# Altium footprint library Connector_Phoenix_SPT.PcbLib: 69 footprints (part 4 of 5)
Each footprint in its own frame and in the unit in brackets; x right, y up, seen from the top. Pads: shape width x height; smd on the part's side, far side on the other; paste and mask are expansions set on the pad; w line width, h text height; cw(c..) or ccw(c..) is an arc to the next point about the centre after c.
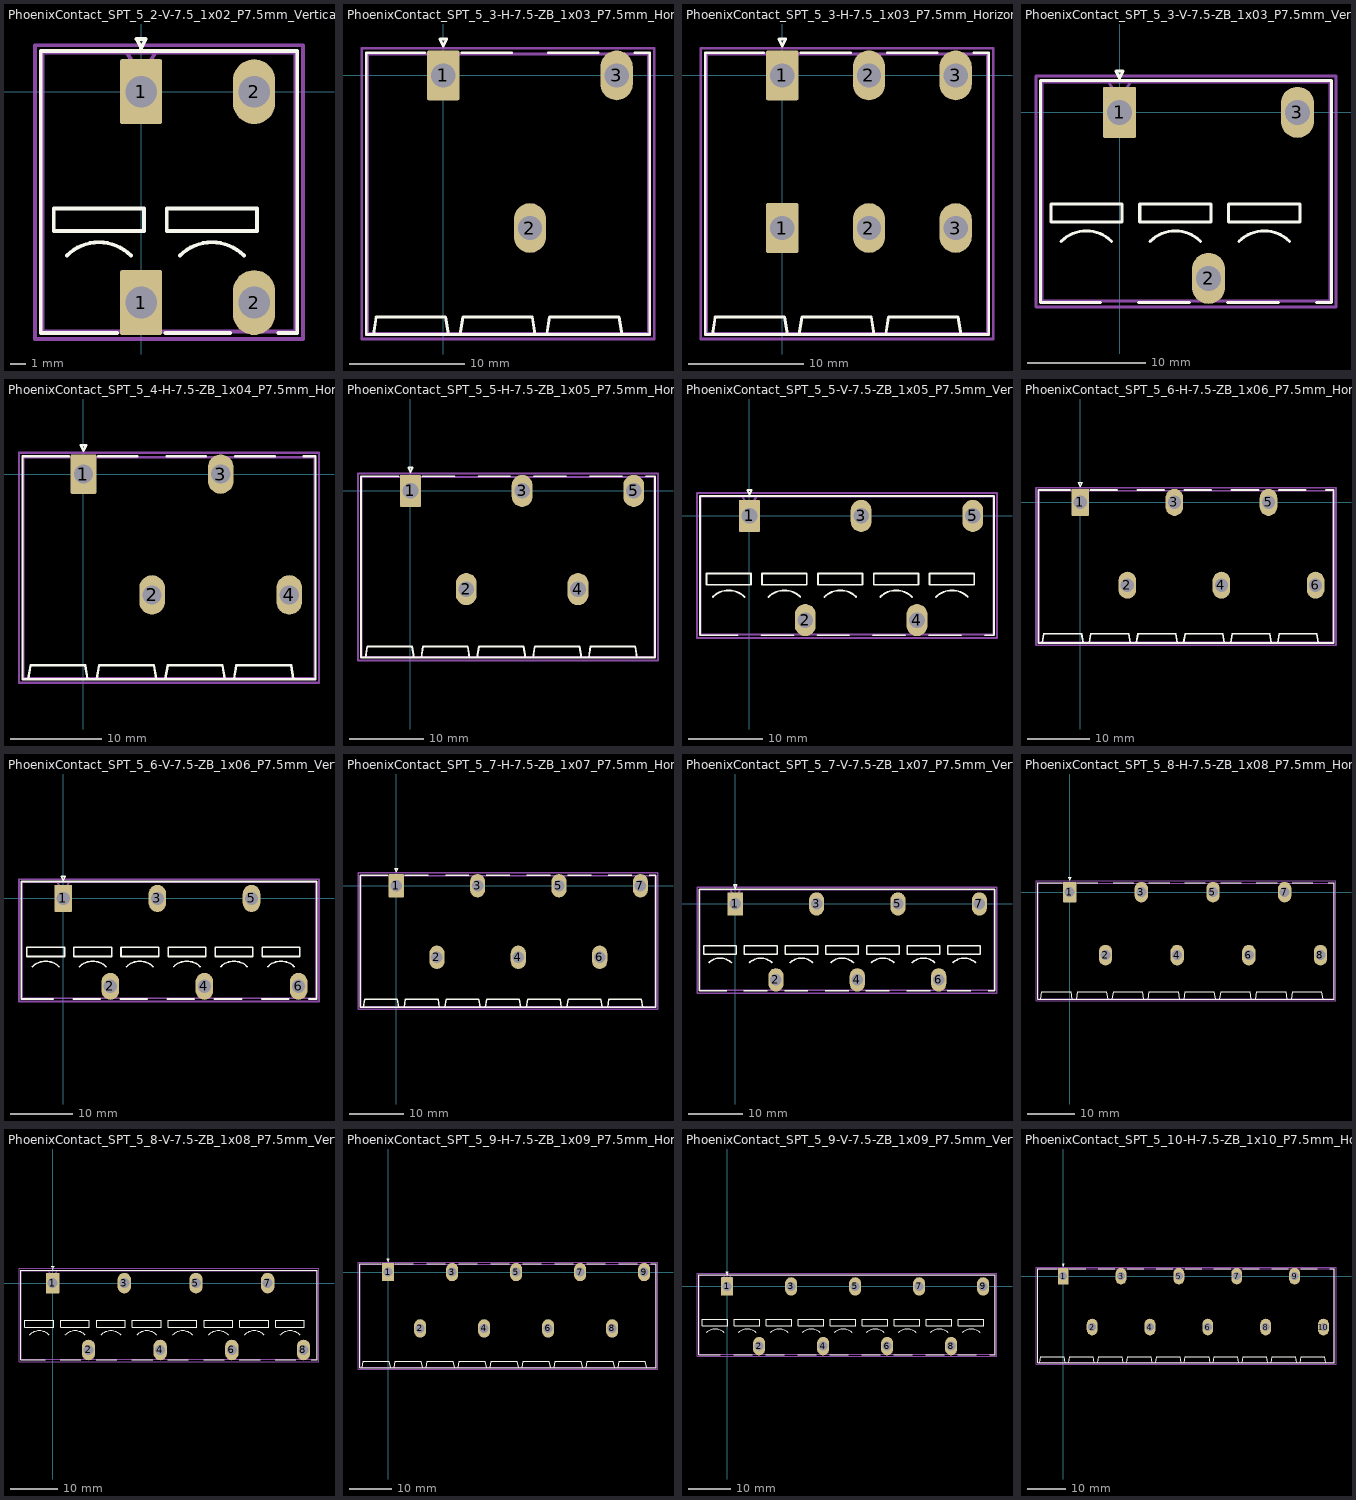
[diagram p3: the footprints below, top view; thin cyan lines are the x and y axes]

## PhoenixContact_SPT_5_2-V-7.5_1x02_P7.5mm_Vertical [mm]
pads (4):
  rrect9% 2.8x4.3 hole 2.1: 1(0,-14) 1(0,0)
  rrect100% 2.8x4.3 hole 2.1: 2(7.5,-14) 2(7.5,0)
F.SilkS:
  lines w0.254: -4.921,-10.879 cw(c-2.8,-13) -0.679,-10.879 ; -1.6,-16.03 -6.66,-16.03 -6.66,2.69 10.36,2.69 10.36,-16.03 9.1,-16.03 ; 1.6,-16.03 5.9,-16.03 ; 2.579,-10.879 cw(c4.7,-13) 6.821,-10.879 ; -5.8,-9.25 0.2,-9.25 0.2,-7.75 -5.8,-7.75 -5.8,-9.25 ; -0.3,3.49 0.3,3.49 0,2.89 -0.3,3.49 ; 1.7,-9.25 7.7,-9.25 7.7,-7.75 1.7,-7.75 1.7,-9.25
Top Assembly:
  lines w0.254: -0.95,2.58 0,1.08 0.95,2.58 ; -6.55,-15.92 10.25,-15.92 10.25,2.58 -6.55,2.58 -6.55,-15.92
  text "'.Designator'" at -2.197,1.04 h1
Top Courtyard:
  lines w0.254: -7.05,-16.42 10.75,-16.42 10.75,3.08 -7.05,3.08 -7.05,-16.42
Top Designator:
  text ".Designator" at -5.768,-6.973 h1.52

## PhoenixContact_SPT_5_3-H-7.5-ZB_1x03_P7.5mm_Horizontal [mm]
pads (3):
  rrect9% 2.8x4.3 hole 2.1: 1(0,0)
  rrect100% 2.8x4.3 hole 2.1: 2(7.5,-13.2) 3(15,0)
F.SilkS:
  lines w0.254: -6.05,-22.41 -5.8,-20.91 0.2,-20.91 0.45,-22.41 ; -1.6,1.96 -6.66,1.96 -6.66,-22.41 17.86,-22.41 17.86,1.96 16.6,1.96 ; 1.45,-22.41 1.7,-20.91 7.7,-20.91 7.95,-22.41 ; 1.6,1.96 5.9,1.96 ; 8.95,-22.41 9.2,-20.91 15.2,-20.91 15.45,-22.41 ; 9.1,1.96 13.4,1.96 ; -0.3,3.15 0.3,3.15 0,2.55 -0.3,3.15
Top Assembly:
  lines w0.254: -0.95,1.85 0,0.35 0.95,1.85 ; -6.55,-22.3 17.75,-22.3 17.75,1.85 -6.55,1.85 -6.55,-22.3
  text "'.Designator'" at 1.553,0.31 h1
Top Courtyard:
  lines w0.254: -7.05,-22.8 18.25,-22.8 18.25,2.35 -7.05,2.35 -7.05,-22.8
Top Designator:
  text ".Designator" at -2.018,-10.333 h1.52

## PhoenixContact_SPT_5_3-H-7.5_1x03_P7.5mm_Horizontal [mm]
pads (6):
  rrect9% 2.8x4.3 hole 2.1: 1(0,-13.2) 1(0,0)
  rrect100% 2.8x4.3 hole 2.1: 2(7.5,-13.2) 2(7.5,0) 3(15,-13.2) 3(15,0)
F.SilkS:
  lines w0.254: -6.05,-22.41 -5.8,-20.91 0.2,-20.91 0.45,-22.41 ; -1.6,1.96 -6.66,1.96 -6.66,-22.41 17.86,-22.41 17.86,1.96 16.6,1.96 ; 1.45,-22.41 1.7,-20.91 7.7,-20.91 7.95,-22.41 ; 1.6,1.96 5.9,1.96 ; 8.95,-22.41 9.2,-20.91 15.2,-20.91 15.45,-22.41 ; 9.1,1.96 13.4,1.96 ; -0.3,3.15 0.3,3.15 0,2.55 -0.3,3.15
Top Assembly:
  lines w0.254: -0.95,1.85 0,0.35 0.95,1.85 ; -6.55,-22.3 17.75,-22.3 17.75,1.85 -6.55,1.85 -6.55,-22.3
  text "'.Designator'" at 1.553,0.31 h1
Top Courtyard:
  lines w0.254: -7.05,-22.8 18.25,-22.8 18.25,2.35 -7.05,2.35 -7.05,-22.8
Top Designator:
  text ".Designator" at -2.018,-10.333 h1.52

## PhoenixContact_SPT_5_3-V-7.5-ZB_1x03_P7.5mm_Vertical [mm]
pads (3):
  rrect9% 2.8x4.3 hole 2.1: 1(0,0)
  rrect100% 2.8x4.3 hole 2.1: 2(7.5,-14) 3(15,0)
F.SilkS:
  lines w0.254: -4.921,-10.879 cw(c-2.8,-13) -0.679,-10.879 ; -1.6,-16.03 -6.66,-16.03 -6.66,2.69 17.86,2.69 17.86,-16.03 16.6,-16.03 ; 1.6,-16.03 5.9,-16.03 ; 2.579,-10.879 cw(c4.7,-13) 6.821,-10.879 ; 9.1,-16.03 13.4,-16.03 ; 10.079,-10.879 cw(c12.2,-13) 14.321,-10.879 ; -5.8,-9.25 0.2,-9.25 0.2,-7.75 -5.8,-7.75 -5.8,-9.25 ; -0.3,3.49 0.3,3.49 0,2.89 -0.3,3.49 ; 1.7,-9.25 7.7,-9.25 7.7,-7.75 1.7,-7.75 1.7,-9.25 ; 9.2,-9.25 15.2,-9.25 15.2,-7.75 9.2,-7.75 9.2,-9.25
Top Assembly:
  lines w0.254: -0.95,2.58 0,1.08 0.95,2.58 ; -6.55,-15.92 17.75,-15.92 17.75,2.58 -6.55,2.58 -6.55,-15.92
  text "'.Designator'" at 1.553,1.04 h1
Top Courtyard:
  lines w0.254: -7.05,-16.42 18.25,-16.42 18.25,3.08 -7.05,3.08 -7.05,-16.42
Top Designator:
  text ".Designator" at -2.018,-6.973 h1.52

## PhoenixContact_SPT_5_4-H-7.5-ZB_1x04_P7.5mm_Horizontal [mm]
pads (4):
  rrect9% 2.8x4.3 hole 2.1: 1(0,0)
  rrect100% 2.8x4.3 hole 2.1: 2(7.5,-13.2) 3(15,0) 4(22.5,-13.2)
F.SilkS:
  lines w0.254: -6.05,-22.41 -5.8,-20.91 0.2,-20.91 0.45,-22.41 ; -1.6,1.96 -6.66,1.96 -6.66,-22.41 25.36,-22.41 25.36,1.96 24.1,1.96 ; 1.45,-22.41 1.7,-20.91 7.7,-20.91 7.95,-22.41 ; 1.6,1.96 5.9,1.96 ; 8.95,-22.41 9.2,-20.91 15.2,-20.91 15.45,-22.41 ; 9.1,1.96 13.4,1.96 ; 16.45,-22.41 16.7,-20.91 22.7,-20.91 22.95,-22.41 ; 16.6,1.96 20.9,1.96 ; -0.3,3.15 0.3,3.15 0,2.55 -0.3,3.15
Top Assembly:
  lines w0.254: -0.95,1.85 0,0.35 0.95,1.85 ; -6.55,-22.3 25.25,-22.3 25.25,1.85 -6.55,1.85 -6.55,-22.3
  text "'.Designator'" at 5.303,0.31 h1
Top Courtyard:
  lines w0.254: -7.05,-22.8 25.75,-22.8 25.75,2.35 -7.05,2.35 -7.05,-22.8
Top Designator:
  text ".Designator" at 1.732,-10.333 h1.52

## PhoenixContact_SPT_5_5-H-7.5-ZB_1x05_P7.5mm_Horizontal [mm]
pads (5):
  rrect9% 2.8x4.3 hole 2.1: 1(0,0)
  rrect100% 2.8x4.3 hole 2.1: 2(7.5,-13.2) 3(15,0) 4(22.5,-13.2) 5(30,0)
F.SilkS:
  lines w0.254: -6.05,-22.41 -5.8,-20.91 0.2,-20.91 0.45,-22.41 ; -1.6,1.96 -6.66,1.96 -6.66,-22.41 32.86,-22.41 32.86,1.96 31.6,1.96 ; 1.45,-22.41 1.7,-20.91 7.7,-20.91 7.95,-22.41 ; 1.6,1.96 5.9,1.96 ; 8.95,-22.41 9.2,-20.91 15.2,-20.91 15.45,-22.41 ; 9.1,1.96 13.4,1.96 ; 16.45,-22.41 16.7,-20.91 22.7,-20.91 22.95,-22.41 ; 16.6,1.96 20.9,1.96 ; 23.95,-22.41 24.2,-20.91 30.2,-20.91 30.45,-22.41 ; 24.1,1.96 28.4,1.96 ; -0.3,3.15 0.3,3.15 0,2.55 -0.3,3.15
Top Assembly:
  lines w0.254: -0.95,1.85 0,0.35 0.95,1.85 ; -6.55,-22.3 32.75,-22.3 32.75,1.85 -6.55,1.85 -6.55,-22.3
  text "'.Designator'" at 9.053,0.31 h1
Top Courtyard:
  lines w0.254: -7.05,-22.8 33.25,-22.8 33.25,2.35 -7.05,2.35 -7.05,-22.8
Top Designator:
  text ".Designator" at 5.482,-10.333 h1.52

## PhoenixContact_SPT_5_5-V-7.5-ZB_1x05_P7.5mm_Vertical [mm]
pads (5):
  rrect9% 2.8x4.3 hole 2.1: 1(0,0)
  rrect100% 2.8x4.3 hole 2.1: 2(7.5,-14) 3(15,0) 4(22.5,-14) 5(30,0)
F.SilkS:
  lines w0.254: -4.921,-10.879 cw(c-2.8,-13) -0.679,-10.879 ; -1.6,-16.03 -6.66,-16.03 -6.66,2.69 32.86,2.69 32.86,-16.03 31.6,-16.03 ; 1.6,-16.03 5.9,-16.03 ; 2.579,-10.879 cw(c4.7,-13) 6.821,-10.879 ; 9.1,-16.03 13.4,-16.03 ; 10.079,-10.879 cw(c12.2,-13) 14.321,-10.879 ; 16.6,-16.03 20.9,-16.03 ; 17.579,-10.879 cw(c19.7,-13) 21.821,-10.879 ; 24.1,-16.03 28.4,-16.03 ; 25.079,-10.879 cw(c27.2,-13) 29.321,-10.879 ; -5.8,-9.25 0.2,-9.25 0.2,-7.75 -5.8,-7.75 -5.8,-9.25 ; -0.3,3.49 0.3,3.49 0,2.89 -0.3,3.49 ; 1.7,-9.25 7.7,-9.25 7.7,-7.75 1.7,-7.75 1.7,-9.25 ; 9.2,-9.25 15.2,-9.25 15.2,-7.75 9.2,-7.75 9.2,-9.25 ; 16.7,-9.25 22.7,-9.25 22.7,-7.75 16.7,-7.75 16.7,-9.25 ; 24.2,-9.25 30.2,-9.25 30.2,-7.75 24.2,-7.75 24.2,-9.25
Top Assembly:
  lines w0.254: -0.95,2.58 0,1.08 0.95,2.58 ; -6.55,-15.92 32.75,-15.92 32.75,2.58 -6.55,2.58 -6.55,-15.92
  text "'.Designator'" at 9.053,1.04 h1
Top Courtyard:
  lines w0.254: -7.05,-16.42 33.25,-16.42 33.25,3.08 -7.05,3.08 -7.05,-16.42
Top Designator:
  text ".Designator" at 5.482,-6.973 h1.52

## PhoenixContact_SPT_5_6-H-7.5-ZB_1x06_P7.5mm_Horizontal [mm]
pads (6):
  rrect9% 2.8x4.3 hole 2.1: 1(0,0)
  rrect100% 2.8x4.3 hole 2.1: 2(7.5,-13.2) 3(15,0) 4(22.5,-13.2) 5(30,0) 6(37.5,-13.2)
F.SilkS:
  lines w0.254: -6.05,-22.41 -5.8,-20.91 0.2,-20.91 0.45,-22.41 ; -1.6,1.96 -6.66,1.96 -6.66,-22.41 40.36,-22.41 40.36,1.96 39.1,1.96 ; 1.45,-22.41 1.7,-20.91 7.7,-20.91 7.95,-22.41 ; 1.6,1.96 5.9,1.96 ; 8.95,-22.41 9.2,-20.91 15.2,-20.91 15.45,-22.41 ; 9.1,1.96 13.4,1.96 ; 16.45,-22.41 16.7,-20.91 22.7,-20.91 22.95,-22.41 ; 16.6,1.96 20.9,1.96 ; 23.95,-22.41 24.2,-20.91 30.2,-20.91 30.45,-22.41 ; 24.1,1.96 28.4,1.96 ; 31.45,-22.41 31.7,-20.91 37.7,-20.91 37.95,-22.41 ; 31.6,1.96 35.9,1.96 ; -0.3,3.15 0.3,3.15 0,2.55 -0.3,3.15
Top Assembly:
  lines w0.254: -0.95,1.85 0,0.35 0.95,1.85 ; -6.55,-22.3 40.25,-22.3 40.25,1.85 -6.55,1.85 -6.55,-22.3
  text "'.Designator'" at 12.803,0.31 h1
Top Courtyard:
  lines w0.254: -7.05,-22.8 40.75,-22.8 40.75,2.35 -7.05,2.35 -7.05,-22.8
Top Designator:
  text ".Designator" at 9.232,-10.333 h1.52

## PhoenixContact_SPT_5_6-V-7.5-ZB_1x06_P7.5mm_Vertical [mm]
pads (6):
  rrect9% 2.8x4.3 hole 2.1: 1(0,0)
  rrect100% 2.8x4.3 hole 2.1: 2(7.5,-14) 3(15,0) 4(22.5,-14) 5(30,0) 6(37.5,-14)
F.SilkS:
  lines w0.254: -4.921,-10.879 cw(c-2.8,-13) -0.679,-10.879 ; -1.6,-16.03 -6.66,-16.03 -6.66,2.69 40.36,2.69 40.36,-16.03 39.1,-16.03 ; 1.6,-16.03 5.9,-16.03 ; 2.579,-10.879 cw(c4.7,-13) 6.821,-10.879 ; 9.1,-16.03 13.4,-16.03 ; 10.079,-10.879 cw(c12.2,-13) 14.321,-10.879 ; 16.6,-16.03 20.9,-16.03 ; 17.579,-10.879 cw(c19.7,-13) 21.821,-10.879 ; 24.1,-16.03 28.4,-16.03 ; 25.079,-10.879 cw(c27.2,-13) 29.321,-10.879 ; 31.6,-16.03 35.9,-16.03 ; 32.579,-10.879 cw(c34.7,-13) 36.821,-10.879 ; -5.8,-9.25 0.2,-9.25 0.2,-7.75 -5.8,-7.75 -5.8,-9.25 ; -0.3,3.49 0.3,3.49 0,2.89 -0.3,3.49 ; 1.7,-9.25 7.7,-9.25 7.7,-7.75 1.7,-7.75 1.7,-9.25 ; 9.2,-9.25 15.2,-9.25 15.2,-7.75 9.2,-7.75 9.2,-9.25 ; 16.7,-9.25 22.7,-9.25 22.7,-7.75 16.7,-7.75 16.7,-9.25 ; 24.2,-9.25 30.2,-9.25 30.2,-7.75 24.2,-7.75 24.2,-9.25 ; 31.7,-9.25 37.7,-9.25 37.7,-7.75 31.7,-7.75 31.7,-9.25
Top Assembly:
  lines w0.254: -0.95,2.58 0,1.08 0.95,2.58 ; -6.55,-15.92 40.25,-15.92 40.25,2.58 -6.55,2.58 -6.55,-15.92
  text "'.Designator'" at 12.803,1.04 h1
Top Courtyard:
  lines w0.254: -7.05,-16.42 40.75,-16.42 40.75,3.08 -7.05,3.08 -7.05,-16.42
Top Designator:
  text ".Designator" at 9.232,-6.973 h1.52

## PhoenixContact_SPT_5_7-H-7.5-ZB_1x07_P7.5mm_Horizontal [mm]
pads (7):
  rrect9% 2.8x4.3 hole 2.1: 1(0,0)
  rrect100% 2.8x4.3 hole 2.1: 2(7.5,-13.2) 3(15,0) 4(22.5,-13.2) 5(30,0) 6(37.5,-13.2) 7(45,0)
F.SilkS:
  lines w0.254: -6.05,-22.41 -5.8,-20.91 0.2,-20.91 0.45,-22.41 ; -1.6,1.96 -6.66,1.96 -6.66,-22.41 47.86,-22.41 47.86,1.96 46.6,1.96 ; 1.45,-22.41 1.7,-20.91 7.7,-20.91 7.95,-22.41 ; 1.6,1.96 5.9,1.96 ; 8.95,-22.41 9.2,-20.91 15.2,-20.91 15.45,-22.41 ; 9.1,1.96 13.4,1.96 ; 16.45,-22.41 16.7,-20.91 22.7,-20.91 22.95,-22.41 ; 16.6,1.96 20.9,1.96 ; 23.95,-22.41 24.2,-20.91 30.2,-20.91 30.45,-22.41 ; 24.1,1.96 28.4,1.96 ; 31.45,-22.41 31.7,-20.91 37.7,-20.91 37.95,-22.41 ; 31.6,1.96 35.9,1.96 ; 38.95,-22.41 39.2,-20.91 45.2,-20.91 45.45,-22.41 ; 39.1,1.96 43.4,1.96 ; -0.3,3.15 0.3,3.15 0,2.55 -0.3,3.15
Top Assembly:
  lines w0.254: -0.95,1.85 0,0.35 0.95,1.85 ; -6.55,-22.3 47.75,-22.3 47.75,1.85 -6.55,1.85 -6.55,-22.3
  text "'.Designator'" at 16.553,0.31 h1
Top Courtyard:
  lines w0.254: -7.05,-22.8 48.25,-22.8 48.25,2.35 -7.05,2.35 -7.05,-22.8
Top Designator:
  text ".Designator" at 12.982,-10.333 h1.52

## PhoenixContact_SPT_5_7-V-7.5-ZB_1x07_P7.5mm_Vertical [mm]
pads (7):
  rrect9% 2.8x4.3 hole 2.1: 1(0,0)
  rrect100% 2.8x4.3 hole 2.1: 2(7.5,-14) 3(15,0) 4(22.5,-14) 5(30,0) 6(37.5,-14) 7(45,0)
F.SilkS:
  lines w0.254: -4.921,-10.879 cw(c-2.8,-13) -0.679,-10.879 ; -1.6,-16.03 -6.66,-16.03 -6.66,2.69 47.86,2.69 47.86,-16.03 46.6,-16.03 ; 1.6,-16.03 5.9,-16.03 ; 2.579,-10.879 cw(c4.7,-13) 6.821,-10.879 ; 9.1,-16.03 13.4,-16.03 ; 10.079,-10.879 cw(c12.2,-13) 14.321,-10.879 ; 16.6,-16.03 20.9,-16.03 ; 17.579,-10.879 cw(c19.7,-13) 21.821,-10.879 ; 24.1,-16.03 28.4,-16.03 ; 25.079,-10.879 cw(c27.2,-13) 29.321,-10.879 ; 31.6,-16.03 35.9,-16.03 ; 32.579,-10.879 cw(c34.7,-13) 36.821,-10.879 ; 39.1,-16.03 43.4,-16.03 ; 40.079,-10.879 cw(c42.2,-13) 44.321,-10.879 ; -5.8,-9.25 0.2,-9.25 0.2,-7.75 -5.8,-7.75 -5.8,-9.25 ; -0.3,3.49 0.3,3.49 0,2.89 -0.3,3.49 ; 1.7,-9.25 7.7,-9.25 7.7,-7.75 1.7,-7.75 1.7,-9.25 ; 9.2,-9.25 15.2,-9.25 15.2,-7.75 9.2,-7.75 9.2,-9.25 ; 16.7,-9.25 22.7,-9.25 22.7,-7.75 16.7,-7.75 16.7,-9.25 ; 24.2,-9.25 30.2,-9.25 30.2,-7.75 24.2,-7.75 24.2,-9.25 ; 31.7,-9.25 37.7,-9.25 37.7,-7.75 31.7,-7.75 31.7,-9.25 ; 39.2,-9.25 45.2,-9.25 45.2,-7.75 39.2,-7.75 39.2,-9.25
Top Assembly:
  lines w0.254: -0.95,2.58 0,1.08 0.95,2.58 ; -6.55,-15.92 47.75,-15.92 47.75,2.58 -6.55,2.58 -6.55,-15.92
  text "'.Designator'" at 16.553,1.04 h1
Top Courtyard:
  lines w0.254: -7.05,-16.42 48.25,-16.42 48.25,3.08 -7.05,3.08 -7.05,-16.42
Top Designator:
  text ".Designator" at 12.982,-6.973 h1.52

## PhoenixContact_SPT_5_8-H-7.5-ZB_1x08_P7.5mm_Horizontal [mm]
pads (8):
  rrect9% 2.8x4.3 hole 2.1: 1(0,0)
  rrect100% 2.8x4.3 hole 2.1: 2(7.5,-13.2) 3(15,0) 4(22.5,-13.2) 5(30,0) 6(37.5,-13.2) 7(45,0) 8(52.5,-13.2)
F.SilkS:
  lines w0.254: -6.05,-22.41 -5.8,-20.91 0.2,-20.91 0.45,-22.41 ; -1.6,1.96 -6.66,1.96 -6.66,-22.41 55.36,-22.41 55.36,1.96 54.1,1.96 ; 1.45,-22.41 1.7,-20.91 7.7,-20.91 7.95,-22.41 ; 1.6,1.96 5.9,1.96 ; 8.95,-22.41 9.2,-20.91 15.2,-20.91 15.45,-22.41 ; 9.1,1.96 13.4,1.96 ; 16.45,-22.41 16.7,-20.91 22.7,-20.91 22.95,-22.41 ; 16.6,1.96 20.9,1.96 ; 23.95,-22.41 24.2,-20.91 30.2,-20.91 30.45,-22.41 ; 24.1,1.96 28.4,1.96 ; 31.45,-22.41 31.7,-20.91 37.7,-20.91 37.95,-22.41 ; 31.6,1.96 35.9,1.96 ; 38.95,-22.41 39.2,-20.91 45.2,-20.91 45.45,-22.41 ; 39.1,1.96 43.4,1.96 ; 46.45,-22.41 46.7,-20.91 52.7,-20.91 52.95,-22.41 ; 46.6,1.96 50.9,1.96 ; -0.3,3.15 0.3,3.15 0,2.55 -0.3,3.15
Top Assembly:
  lines w0.254: -0.95,1.85 0,0.35 0.95,1.85 ; -6.55,-22.3 55.25,-22.3 55.25,1.85 -6.55,1.85 -6.55,-22.3
  text "'.Designator'" at 20.303,0.31 h1
Top Courtyard:
  lines w0.254: -7.05,-22.8 55.75,-22.8 55.75,2.35 -7.05,2.35 -7.05,-22.8
Top Designator:
  text ".Designator" at 16.732,-10.333 h1.52

## PhoenixContact_SPT_5_8-V-7.5-ZB_1x08_P7.5mm_Vertical [mm]
pads (8):
  rrect9% 2.8x4.3 hole 2.1: 1(0,0)
  rrect100% 2.8x4.3 hole 2.1: 2(7.5,-14) 3(15,0) 4(22.5,-14) 5(30,0) 6(37.5,-14) 7(45,0) 8(52.5,-14)
F.SilkS:
  lines w0.254: -4.921,-10.879 cw(c-2.8,-13) -0.679,-10.879 ; -1.6,-16.03 -6.66,-16.03 -6.66,2.69 55.36,2.69 55.36,-16.03 54.1,-16.03 ; 1.6,-16.03 5.9,-16.03 ; 2.579,-10.879 cw(c4.7,-13) 6.821,-10.879 ; 9.1,-16.03 13.4,-16.03 ; 10.079,-10.879 cw(c12.2,-13) 14.321,-10.879 ; 16.6,-16.03 20.9,-16.03 ; 17.579,-10.879 cw(c19.7,-13) 21.821,-10.879 ; 24.1,-16.03 28.4,-16.03 ; 25.079,-10.879 cw(c27.2,-13) 29.321,-10.879 ; 31.6,-16.03 35.9,-16.03 ; 32.579,-10.879 cw(c34.7,-13) 36.821,-10.879 ; 39.1,-16.03 43.4,-16.03 ; 40.079,-10.879 cw(c42.2,-13) 44.321,-10.879 ; 46.6,-16.03 50.9,-16.03 ; 47.579,-10.879 cw(c49.7,-13) 51.821,-10.879 ; -5.8,-9.25 0.2,-9.25 0.2,-7.75 -5.8,-7.75 -5.8,-9.25 ; -0.3,3.49 0.3,3.49 0,2.89 -0.3,3.49 ; 1.7,-9.25 7.7,-9.25 7.7,-7.75 1.7,-7.75 1.7,-9.25 ; 9.2,-9.25 15.2,-9.25 15.2,-7.75 9.2,-7.75 9.2,-9.25 ; 16.7,-9.25 22.7,-9.25 22.7,-7.75 16.7,-7.75 16.7,-9.25 ; 24.2,-9.25 30.2,-9.25 30.2,-7.75 24.2,-7.75 24.2,-9.25 ; 31.7,-9.25 37.7,-9.25 37.7,-7.75 31.7,-7.75 31.7,-9.25 ; 39.2,-9.25 45.2,-9.25 45.2,-7.75 39.2,-7.75 39.2,-9.25 ; 46.7,-9.25 52.7,-9.25 52.7,-7.75 46.7,-7.75 46.7,-9.25
Top Assembly:
  lines w0.254: -0.95,2.58 0,1.08 0.95,2.58 ; -6.55,-15.92 55.25,-15.92 55.25,2.58 -6.55,2.58 -6.55,-15.92
  text "'.Designator'" at 20.303,1.04 h1
Top Courtyard:
  lines w0.254: -7.05,-16.42 55.75,-16.42 55.75,3.08 -7.05,3.08 -7.05,-16.42
Top Designator:
  text ".Designator" at 16.732,-6.973 h1.52

## PhoenixContact_SPT_5_9-H-7.5-ZB_1x09_P7.5mm_Horizontal [mm]
pads (9):
  rrect9% 2.8x4.3 hole 2.1: 1(0,0)
  rrect100% 2.8x4.3 hole 2.1: 2(7.5,-13.2) 3(15,0) 4(22.5,-13.2) 5(30,0) 6(37.5,-13.2) 7(45,0) 8(52.5,-13.2) 9(60,0)
F.SilkS:
  lines w0.254: -6.05,-22.41 -5.8,-20.91 0.2,-20.91 0.45,-22.41 ; -1.6,1.96 -6.66,1.96 -6.66,-22.41 62.86,-22.41 62.86,1.96 61.6,1.96 ; 1.45,-22.41 1.7,-20.91 7.7,-20.91 7.95,-22.41 ; 1.6,1.96 5.9,1.96 ; 8.95,-22.41 9.2,-20.91 15.2,-20.91 15.45,-22.41 ; 9.1,1.96 13.4,1.96 ; 16.45,-22.41 16.7,-20.91 22.7,-20.91 22.95,-22.41 ; 16.6,1.96 20.9,1.96 ; 23.95,-22.41 24.2,-20.91 30.2,-20.91 30.45,-22.41 ; 24.1,1.96 28.4,1.96 ; 31.45,-22.41 31.7,-20.91 37.7,-20.91 37.95,-22.41 ; 31.6,1.96 35.9,1.96 ; 38.95,-22.41 39.2,-20.91 45.2,-20.91 45.45,-22.41 ; 39.1,1.96 43.4,1.96 ; 46.45,-22.41 46.7,-20.91 52.7,-20.91 52.95,-22.41 ; 46.6,1.96 50.9,1.96 ; 53.95,-22.41 54.2,-20.91 60.2,-20.91 60.45,-22.41 ; 54.1,1.96 58.4,1.96 ; -0.3,3.15 0.3,3.15 0,2.55 -0.3,3.15
Top Assembly:
  lines w0.254: -0.95,1.85 0,0.35 0.95,1.85 ; -6.55,-22.3 62.75,-22.3 62.75,1.85 -6.55,1.85 -6.55,-22.3
  text "'.Designator'" at 24.053,0.31 h1
Top Courtyard:
  lines w0.254: -7.05,-22.8 63.25,-22.8 63.25,2.35 -7.05,2.35 -7.05,-22.8
Top Designator:
  text ".Designator" at 20.482,-10.333 h1.52

## PhoenixContact_SPT_5_9-V-7.5-ZB_1x09_P7.5mm_Vertical [mm]
pads (9):
  rrect9% 2.8x4.3 hole 2.1: 1(0,0)
  rrect100% 2.8x4.3 hole 2.1: 2(7.5,-14) 3(15,0) 4(22.5,-14) 5(30,0) 6(37.5,-14) 7(45,0) 8(52.5,-14) 9(60,0)
F.SilkS:
  lines w0.254: -4.921,-10.879 cw(c-2.8,-13) -0.679,-10.879 ; -1.6,-16.03 -6.66,-16.03 -6.66,2.69 62.86,2.69 62.86,-16.03 61.6,-16.03 ; 1.6,-16.03 5.9,-16.03 ; 2.579,-10.879 cw(c4.7,-13) 6.821,-10.879 ; 9.1,-16.03 13.4,-16.03 ; 10.079,-10.879 cw(c12.2,-13) 14.321,-10.879 ; 16.6,-16.03 20.9,-16.03 ; 17.579,-10.879 cw(c19.7,-13) 21.821,-10.879 ; 24.1,-16.03 28.4,-16.03 ; 25.079,-10.879 cw(c27.2,-13) 29.321,-10.879 ; 31.6,-16.03 35.9,-16.03 ; 32.579,-10.879 cw(c34.7,-13) 36.821,-10.879 ; 39.1,-16.03 43.4,-16.03 ; 40.079,-10.879 cw(c42.2,-13) 44.321,-10.879 ; 46.6,-16.03 50.9,-16.03 ; 47.579,-10.879 cw(c49.7,-13) 51.821,-10.879 ; 54.1,-16.03 58.4,-16.03 ; 55.079,-10.879 cw(c57.2,-13) 59.321,-10.879 ; -5.8,-9.25 0.2,-9.25 0.2,-7.75 -5.8,-7.75 -5.8,-9.25 ; -0.3,3.49 0.3,3.49 0,2.89 -0.3,3.49 ; 1.7,-9.25 7.7,-9.25 7.7,-7.75 1.7,-7.75 1.7,-9.25 ; 9.2,-9.25 15.2,-9.25 15.2,-7.75 9.2,-7.75 9.2,-9.25 ; 16.7,-9.25 22.7,-9.25 22.7,-7.75 16.7,-7.75 16.7,-9.25 ; 24.2,-9.25 30.2,-9.25 30.2,-7.75 24.2,-7.75 24.2,-9.25 ; 31.7,-9.25 37.7,-9.25 37.7,-7.75 31.7,-7.75 31.7,-9.25 ; 39.2,-9.25 45.2,-9.25 45.2,-7.75 39.2,-7.75 39.2,-9.25 ; 46.7,-9.25 52.7,-9.25 52.7,-7.75 46.7,-7.75 46.7,-9.25 ; 54.2,-9.25 60.2,-9.25 60.2,-7.75 54.2,-7.75 54.2,-9.25
Top Assembly:
  lines w0.254: -0.95,2.58 0,1.08 0.95,2.58 ; -6.55,-15.92 62.75,-15.92 62.75,2.58 -6.55,2.58 -6.55,-15.92
  text "'.Designator'" at 24.053,1.04 h1
Top Courtyard:
  lines w0.254: -7.05,-16.42 63.25,-16.42 63.25,3.08 -7.05,3.08 -7.05,-16.42
Top Designator:
  text ".Designator" at 20.482,-6.973 h1.52

## PhoenixContact_SPT_5_10-H-7.5-ZB_1x10_P7.5mm_Horizontal [mm]
pads (10):
  rrect9% 2.8x4.3 hole 2.1: 1(0,0)
  rrect100% 2.8x4.3 hole 2.1: 2(7.5,-13.2) 3(15,0) 4(22.5,-13.2) 5(30,0) 6(37.5,-13.2) 7(45,0) 8(52.5,-13.2) 9(60,0) 10(67.5,-13.2)
F.SilkS:
  lines w0.254: -6.05,-22.41 -5.8,-20.91 0.2,-20.91 0.45,-22.41 ; -1.6,1.96 -6.66,1.96 -6.66,-22.41 70.36,-22.41 70.36,1.96 69.1,1.96 ; 1.45,-22.41 1.7,-20.91 7.7,-20.91 7.95,-22.41 ; 1.6,1.96 5.9,1.96 ; 8.95,-22.41 9.2,-20.91 15.2,-20.91 15.45,-22.41 ; 9.1,1.96 13.4,1.96 ; 16.45,-22.41 16.7,-20.91 22.7,-20.91 22.95,-22.41 ; 16.6,1.96 20.9,1.96 ; 23.95,-22.41 24.2,-20.91 30.2,-20.91 30.45,-22.41 ; 24.1,1.96 28.4,1.96 ; 31.45,-22.41 31.7,-20.91 37.7,-20.91 37.95,-22.41 ; 31.6,1.96 35.9,1.96 ; 38.95,-22.41 39.2,-20.91 45.2,-20.91 45.45,-22.41 ; 39.1,1.96 43.4,1.96 ; 46.45,-22.41 46.7,-20.91 52.7,-20.91 52.95,-22.41 ; 46.6,1.96 50.9,1.96 ; 53.95,-22.41 54.2,-20.91 60.2,-20.91 60.45,-22.41 ; 54.1,1.96 58.4,1.96 ; 61.45,-22.41 61.7,-20.91 67.7,-20.91 67.95,-22.41 ; 61.6,1.96 65.9,1.96 ; -0.3,3.15 0.3,3.15 0,2.55 -0.3,3.15
Top Assembly:
  lines w0.254: -0.95,1.85 0,0.35 0.95,1.85 ; -6.55,-22.3 70.25,-22.3 70.25,1.85 -6.55,1.85 -6.55,-22.3
  text "'.Designator'" at 27.803,0.31 h1
Top Courtyard:
  lines w0.254: -7.05,-22.8 70.75,-22.8 70.75,2.35 -7.05,2.35 -7.05,-22.8
Top Designator:
  text ".Designator" at 24.232,-10.333 h1.52